# EAGLE library part L6205 (library iceberg20)
Brückentreiber, 8V - 52VDatenblatt: Link <https://cdn-reichelt.de/documents/datenblatt/A200/DS_L6205N.pdf>
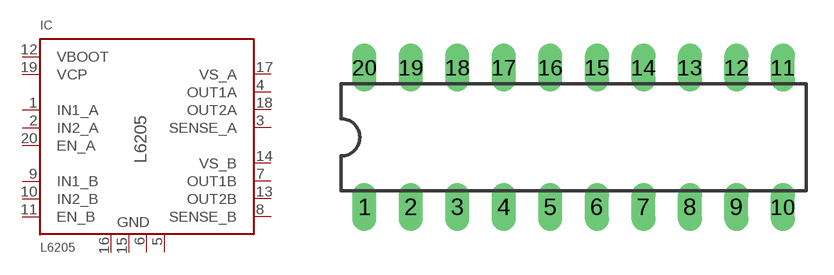
[diagram p11: symbol with the pads of DIL20; footprint DIL20]

Designator prefix IC

## L6205N (BESTAND: ?; HERSTELLER: ST MICROELECTRONICS; HERSTELLER-NR: L6205N; SUPPLIER: reichelt; SUPPLIER-NR: L 6205 N)  [DIL20]
1  IN1_A  in
2  IN2_A  in
3  SENSE_A  in
4  OUT1A  out
5  GND  pwr
6  GND  pwr
7  OUT1B  out
8  SENSE_B  in
9  IN1_B  in
10  IN2_B  in
11  EN_B  in
12  VBOOT  pwr
13  OUT2B  out
14  VS_B  pwr
15  GND  pwr
16  GND  pwr
17  VS_A  pwr
18  OUT2A  out
19  VCP  pwr
20  EN_A  in

## Footprint DIL20 (pad centres in mm)
Dual In Line Package
drill 0.813 long: 1 -11.43,-3.81; 2 -8.89,-3.81; 3 -6.35,-3.81; 4 -3.81,-3.81; 5 -1.27,-3.81; 6 1.27,-3.81; 7 3.81,-3.81; 8 6.35,-3.81; 9 8.89,-3.81; 10 11.43,-3.81; 11 11.43,3.81; 12 8.89,3.81; 13 6.35,3.81; 14 3.81,3.81; 15 1.27,3.81; 16 -1.27,3.81; 17 -3.81,3.81; 18 -6.35,3.81; 19 -8.89,3.81; 20 -11.43,3.81